# Altium schematic symbol library 2016-11-28_09-37-58.SchLib: 2 symbols
Pins are listed as number, name and electrical type; pins without a type are passive.

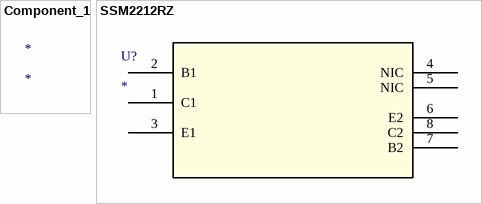
[diagram p0: symbols Component_1 to SSM2212RZ]

## Component_1
designator *

## SSM2212RZ
designator U?
Imported; Value: Value; Type: Type; RefDes: RefDes
footprint R_8
pins: 1 C1, 2 B1, 3 E1, 4 NIC, 5 NIC, 6 E2, 7 B2, 8 C2